# Altium footprint library EISI.PcbLib: 695 footprints (part 42 of 44)
Each footprint in its own frame and in the unit in brackets; x right, y up, seen from the top. Pads: shape width x height; smd on the part's side, far side on the other; paste and mask are expansions set on the pad; w line width, h text height; cw(c..) or ccw(c..) is an arc to the next point about the centre after c.
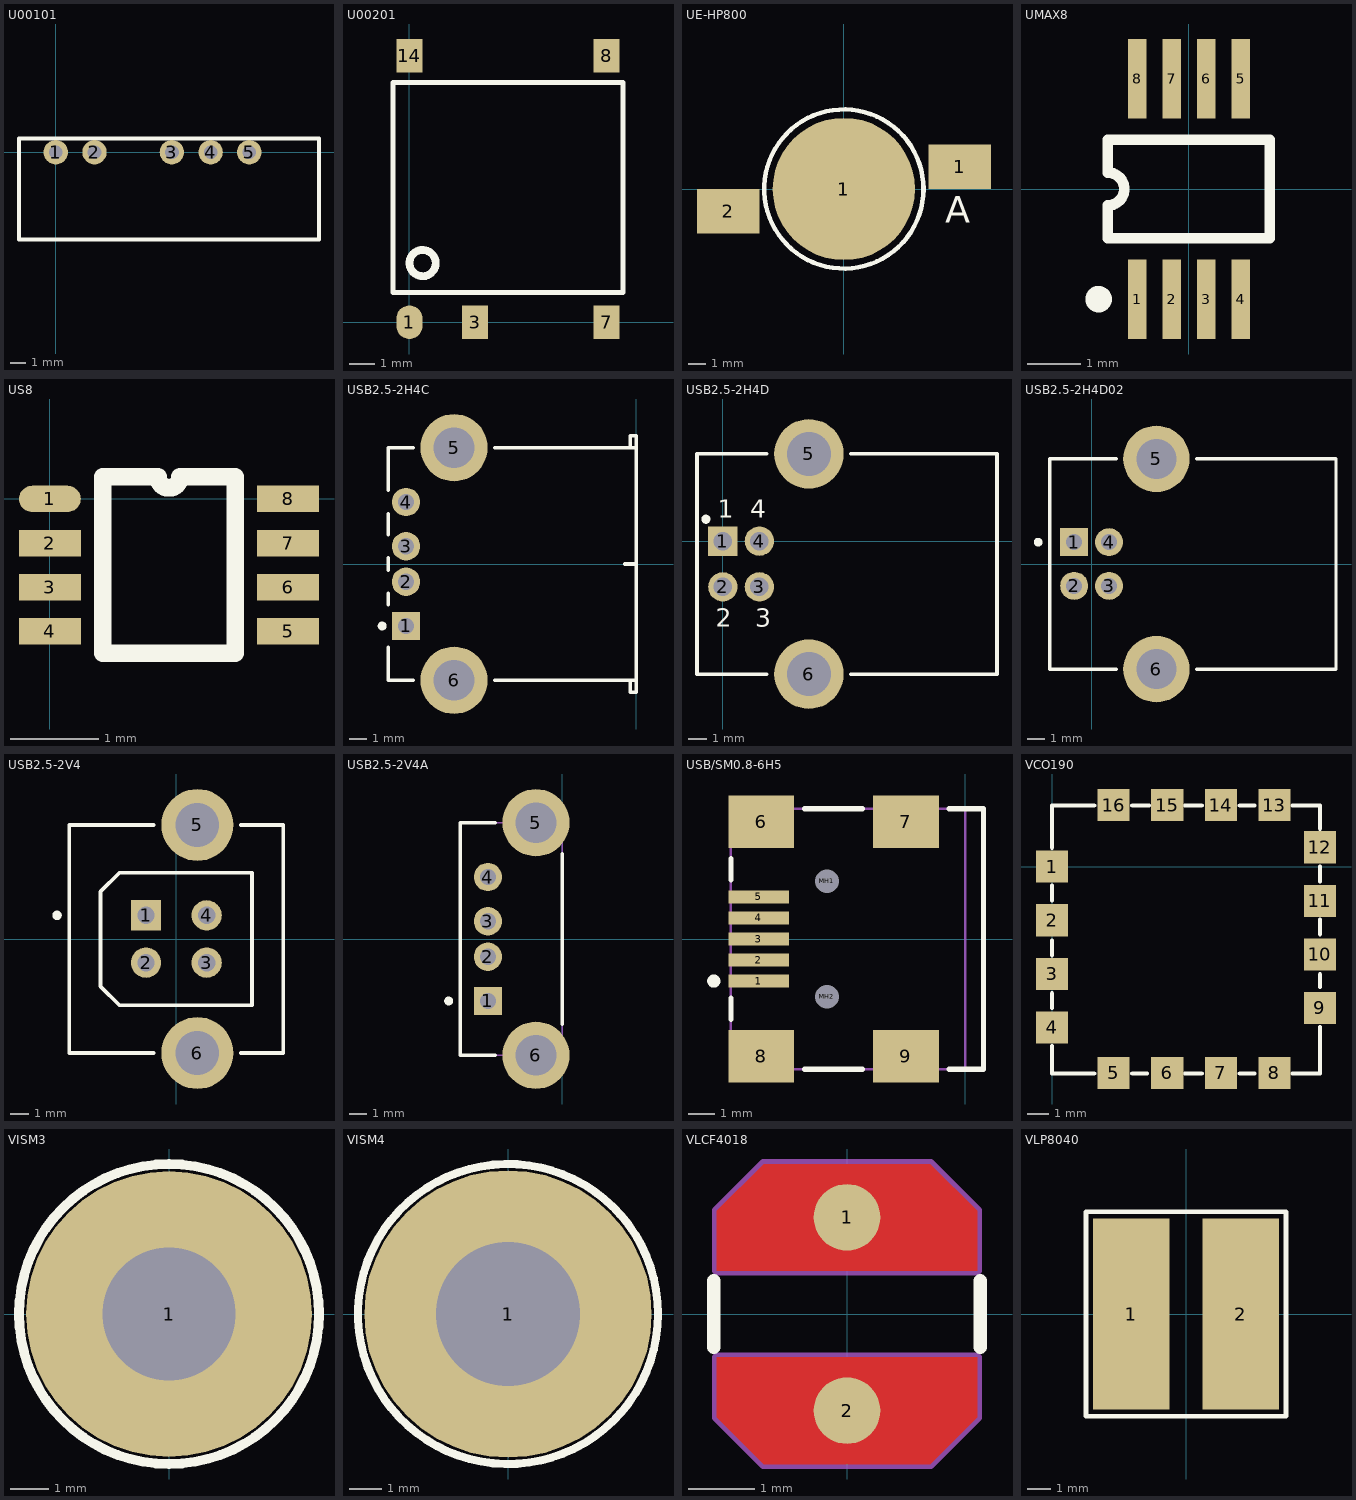
[diagram p41: the footprints below, top view; thin cyan lines are the x and y axes]

## U00101 [mm]
pads (5):
  round 1.6 hole 0.9: 1(0,0) 2(2.54,0) 3(7.62,0) 4(10.16,0) 5(12.7,0)
TopOverlay:
  lines w0.254: -2.413,-5.715 17.272,-5.715 17.272,0.889 -2.413,0.889 -2.413,-5.715

## U00201 [mm]
pads (5):
  oval 1x1.3 smd: 1(0,0)
  rect 1x1.3 smd: 3(2.54,0) 7(7.62,0) 8(7.62,10.3) 14(0,10.3)
TopOverlay:
  circle w0.3: c0.508,2.286 r0.508
  lines w0.2: -0.635,1.143 -0.508,1.143 8.255,1.143 8.255,9.271 -0.635,9.271 -0.635,3.937 -0.635,3.429 -0.635,1.143

## UE-HP800 [mm] "Led U-PEX SMD"
height 5.7
pads (3):
  round 8 smd: 1(0,0)
  rect 3.5x2.5 smd: 1(6.5,1.25) 2(-6.5,-1.25)
TopOverlay:
  circle w0.254: c0,0 r4.472
  text "A" at 7.1,-1.9 h1.5

## UMAX8 [mm] "Shrink Small Outline; 8 Leads; Body Width 3 mm; Pitch 0.65 mm"
height 1.1
pads (8):
  rect 0.35x1.5 smd: 1(-0.975,-2.075) 2(-0.325,-2.075) 3(0.325,-2.075) 4(0.975,-2.075) 5(0.975,2.075) 6(0.325,2.075) 7(-0.325,2.075) 8(-0.975,2.075)
TopOverlay:
  circle w0.25: c-1.7,-2.075 r0.125
  lines w0.2: -1.525,-0.925 -1.525,-0.308 ccw(c-1.525,0) -1.525,0.308 -1.525,0.925 1.525,0.925 1.525,-0.925 -1.525,-0.925

## US8 [mm] "2.0x2.3mm / 0.5mm pitch US8 (MO-187)"
height 0.7
pads (8):
  oval 0.7x0.3 smd: 1(0,0)
  rect 0.7x0.3 smd: 2(0,-0.5) 3(0,-1) 4(0,-1.5) 5(2.7,-1.5) 6(2.7,-1) 7(2.7,-0.5) 8(2.7,0)
TopOverlay:
  lines w0.2: 0.6,-1.75 2.1,-1.75 2.1,0.25 1.475,0.25 cw(c1.35,0.25) 1.225,0.25 0.6,0.25 0.6,-1.75

## USB2.5-2H4C [mm] "Connector; USB1.1, Type A, Thru-Hole; 4 Position; Right Angle"
height 7.01
pads (6):
  rect 1.6x1.6 hole 0.92: 1(-12.99,-3.5)
  round 1.6 hole 0.92: 2(-12.99,-1) 3(-12.99,1) 4(-12.99,3.5)
  round 3.8 hole 2.3: 5(-10.28,6.57) 6(-10.28,-6.57)
TopOverlay:
  circle w0.25: c-14.34,-3.5 r0.125
  lines w0.2: -14,-4.7 -14,-6.565 -12.58,-6.565 ; -14,-2.3 -14,-1.66 ; -14,-0.34 -14,0.34 ; -14,1.66 -14,2.84 ; -14,4.16 -14,6.565 -12.58,6.565 ; -7.98,-6.565 0,-6.565 ; -7.98,6.565 0,6.565 ; -0.635,0 0,0 ; -0.32,-6.565 -0.32,-7.25 0,-7.25 0,-6.565 ; -0.32,6.565 -0.32,7.25 0,7.25 0,6.565 ; 0,-6.565 0,6.565

## USB2.5-2H4D [mm] "Connector; USB, Type B, Thru-Hole; 4 Position; Right Angle"
height 11.05
pads (6):
  rect 1.6x1.6 hole 1: 1(0,0)
  round 1.6 hole 1: 2(0,-2.5) 3(2,-2.5) 4(2,0)
  round 3.8 hole 2.4: 5(4.71,4.77) 6(4.71,-7.27)
TopOverlay:
  circle w0.25: c-0.925,1.2 r0.125
  lines w0.2: 2.41,-7.27 -1.41,-7.27 -1.41,4.77 2.41,4.77 ; 7.01,-7.27 14.99,-7.27 14.99,4.77 7.01,4.77
  text "4" at 1.508,1.29 h1
  text "3" at 1.762,-4.679 h1
  text "2" at -0.397,-4.679 h1
  text "1" at -0.27,1.29 h1

## USB2.5-2H4D02 [mm] "Connector; USB1.1, Type B, Thru-Hole; 4 Position; Right Angle"
height 11.05
pads (6):
  rect 1.6x1.6 hole 0.92: 1(-1,1.25)
  round 1.6 hole 0.92: 2(-1,-1.25) 3(1,-1.25) 4(1,1.25)
  round 3.8 hole 2.3: 5(3.71,6.02) 6(3.71,-6.02)
TopOverlay:
  circle w0.25: c-3.06,1.25 r0.125
  lines w0.2: 1.41,-6.02 -2.41,-6.02 -2.41,6.02 1.41,6.02 ; 6.01,-6.02 13.99,-6.02 13.99,6.02 6.01,6.02

## USB2.5-2V4 [mm] "Connector; USB1.1, Type B, Thru-Hole; 4 Position; Vertical"
height 16
pads (6):
  rect 1.6x1.6 hole 0.92: 1(-1.6,1.25)
  round 1.6 hole 0.92: 2(-1.6,-1.25) 3(1.6,-1.25) 4(1.6,1.25)
  round 3.8 hole 2.3: 5(1.11,6.02) 6(1.11,-6.02)
TopOverlay:
  circle w0.25: c-6.3,1.25 r0.125
  lines w0.2: -1.19,-6.02 -5.65,-6.02 -5.65,6.02 -1.19,6.02 ; 3.41,-6.02 5.65,-6.02 5.65,6.02 3.41,6.02 ; -4,-2.5 -4,2.5 -3,3.5 4,3.5 4,-3.5 -3,-3.5 -4,-2.5

## USB2.5-2V4A [mm] "Connector; USB1.1, Type A, Thru-Hole; 4 Position; Vertical"
height 15
pads (6):
  rect 1.6x1.6 hole 0.92: 1(-4.19,-3.5)
  round 1.6 hole 0.92: 2(-4.19,-1) 3(-4.19,1) 4(-4.19,3.5)
  round 3.8 hole 2.3: 5(-1.48,6.57) 6(-1.48,-6.57)
TopOverlay:
  circle w0.25: c-6.41,-3.5 r0.125
  lines w0.2: -3.78,-6.57 -5.76,-6.57 -5.76,6.57 -3.78,6.57 ; 0,-4.81 0,4.81
Mechanical13:
  lines w0.1: -5.76,-6.57 -5.76,6.57 0,6.57 0,-6.57 -5.76,-6.57
3D body: height 15, standoff 0, extent -5.76,-6.57 0,6.57

## USB/SM0.8-6H5 [mm] "Connector; MINI USB, Type AB, SM; 5 Position"
height 3.9
pads (11):
  rect 2.3x0.5 smd: 1(-7.85,-1.6) 2(-7.85,-0.8) 3(-7.85,0) 4(-7.85,0.8) 5(-7.85,1.6)
  rect 2.5x2 smd: 6(-7.75,4.45) 7(-2.25,4.45) 8(-7.75,-4.45) 9(-2.25,-4.45)
  round 0.6 hole 0.9 unplated: MH1(-5.25,2.2) MH2(-5.25,-2.2)
TopOverlay:
  circle w0.25: c-9.55,-1.6 r0.125
  lines w0.2: -8.9,-3.05 -8.9,-2.25 ; -8.9,2.25 -8.9,3.05 ; -6.1,-4.95 -3.9,-4.95 ; -6.1,4.95 -3.9,4.95 ; -0.6,-4.95 0.7,-4.95 0.7,4.95 -0.6,4.95
Mechanical1:
  lines w0.1: 0,-4.95 0,4.95
  text "PCB Edge" at 0.432,-4.036 h0.25
Mechanical13:
  lines w0.1: -8.9,-4.95 -8.9,4.95 0.7,4.95 0.7,-4.95 -8.9,-4.95
3D body: height 3.9, standoff 0, extent -8.9,-4.95 0.7,4.95

## VCO190 [mm] "VCO Sirenza"
height 5.66
pads (16):
  rect 1.52x1.52 smd: 1(0,0) 2(0,-2.54) 3(0,-5.08) 4(0,-7.62) 5(2.92,-9.78) 6(5.46,-9.78) 7(8,-9.78) 8(10.54,-9.78) 9(12.7,-6.7) 10(12.7,-4.16) 11(12.7,-1.62) 12(12.7,0.92) 13(10.54,2.92) 14(8,2.92) 15(5.46,2.92) 16(2.92,2.92)
TopOverlay:
  lines w0.2: 0,-8.5 0,-9.8 2,-9.8 ; 0,-6.7 0,-6 ; 0,-4.2 0,-3.5 ; 0,-1.6 0,-0.9 ; 0,0.9 0,2.9 2,2.9 ; 3.8,-9.8 4.5,-9.8 ; 3.8,2.9 4.6,2.9 ; 6.3,-9.8 7.1,-9.8 ; 6.3,2.9 7.1,2.9 ; 8.9,-9.8 9.6,-9.8 ; 8.9,2.9 9.6,2.9 ; 11.4,-9.8 12.7,-9.8 12.7,-7.6 ; 11.4,2.9 12.7,2.9 12.7,1.8 ; 12.7,-5.7 12.7,-5.1 ; 12.7,-3.2 12.7,-2.5 ; 12.7,-0.7 12.7,0

## VISM3 [mm]
pads (1):
  round 7.5 hole 3.5: 1(0,0)
TopOverlay:
  circle w0.254: c0,0 r3.937

## VISM4 [mm]
pads (1):
  round 9 hole 4.5: 1(0,0)
TopOverlay:
  circle w0.254: c0,0 r4.699

## VLCF4018 [mm] "TDK inductor 4x4mm"
height 1.8
pads (2):
  round 1 smd paste-0.2: 1(0,1.45) 2(0,-1.45)
TopLayer:
  region: -1.95,0.65 1.95,0.65 1.95,1.55 1.25,2.25 -1.25,2.25 -1.95,1.55
  region: -1.95,-1.55 -1.25,-2.25 1.25,-2.25 1.95,-1.55 1.95,-0.65 -1.95,-0.65
TopOverlay:
  lines w0.2: -2,-0.5 -2,0.5 ; 2,-0.5 2,0.5
Mechanical4:
  lines w0.15: -1.95,-1.55 -1.95,-0.65 1.95,-0.65 1.95,-1.55 1.25,-2.25 -1.25,-2.25 -1.95,-1.55 ; -1.95,0.65 1.95,0.65 1.95,1.55 1.25,2.25 -1.25,2.25 -1.95,1.55 -1.95,0.65

## VLP8040 [mm] "INDUCTOR VLP8040T TDK"
height 4
pads (2):
  rect 3.3x8.2 smd: 1(-2.35,0) 2(2.35,0)
TopOverlay:
  lines w0.2: -4.3,-4.4 4.3,-4.4 4.3,4.4 -4.3,4.4 -4.3,-4.4